# Altium footprint library TDFN-14_EP.PcbLib: 1 footprints
Each footprint in its own frame and in the unit in brackets; x right, y up, seen from the top. Pads: shape width x height; smd on the part's side, far side on the other; paste and mask are expansions set on the pad; w line width, h text height; cw(c..) or ccw(c..) is an arc to the next point about the centre after c.
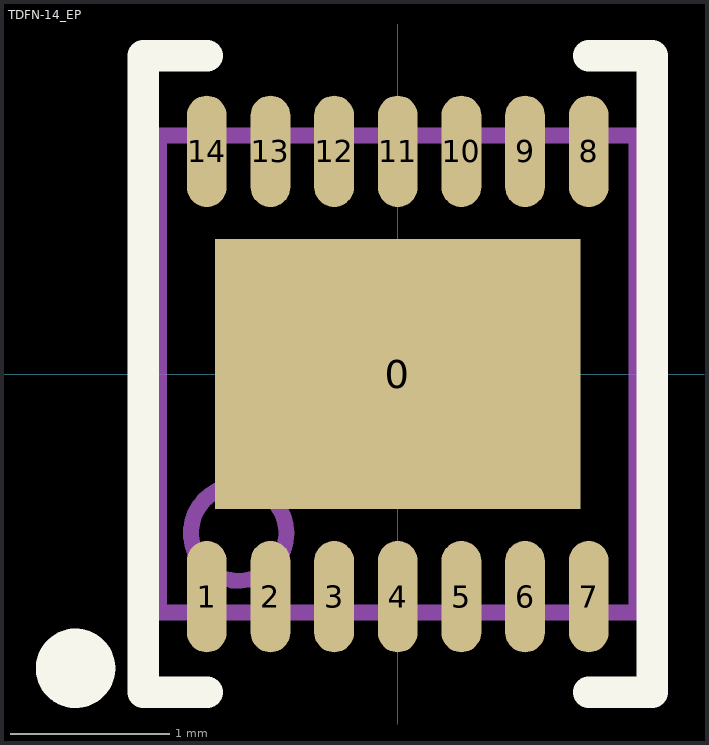
[diagram p0: the footprint, top view; thin cyan lines are the x and y axes]

## TDFN-14_EP [mm]
pads (15):
  rect 2.3x1.7 smd mask+0.051: 0(0,0)
  oval 0.25x0.7 smd mask+0.051: 1(-1.2,-1.4) 2(-0.8,-1.4) 3(-0.4,-1.4) 4(0,-1.4) 5(0.4,-1.4) 6(0.8,-1.4) 7(1.2,-1.4) 8(1.2,1.4) 9(0.8,1.4) 10(0.4,1.4) 11(0,1.4) 12(-0.4,1.4) 13(-0.8,1.4) 14(-1.2,1.4)
Top Overlay:
  circle w0.25: c-2.025,-1.85 r0.125
  lines w0.2: -1.2,-2 -1.6,-2 -1.6,2 -1.2,2 ; 1.2,-2 1.6,-2 1.6,2 1.2,2
Mechanical 13:
  circle w0.1: c-1,-1 r0.3
  lines w0.1: -1.5,-1.5 1.5,-1.5 1.5,1.5 -1.5,1.5 -1.5,-1.5